# EAGLE library part R-78AAXX-0.5SMD (library recom-intl)
DC-DC CONVERTER R-78AA-0.5 Series
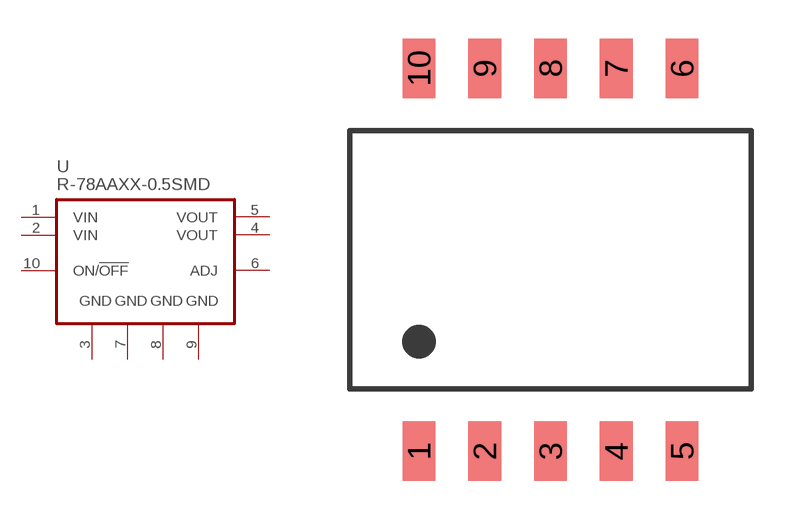
[diagram p0: symbol with the pads of SMD-10; footprint SMD-10]

Designator prefix U

## R-78AAXX-0.5SMD  [SMD-10]
1  VIN  in
2  VIN  in
3  GND  pwr
4  VOUT  pas
5  VOUT  pas
6  ADJ  in
7  GND  pwr
8  GND  pwr
9  GND  pwr
10  ON/!OFF!  pas

## Footprint SMD-10 (pad centres in mm)
SMD 10 0.1" pitch
smd 1.27 x 2.286: 1 -5.08,-7.4; 2 -2.54,-7.4; 3 0,-7.4; 4 2.54,-7.4; 5 5.08,-7.4; 6 5.08,7.4; 7 2.54,7.4; 8 0,7.4; 9 -2.54,7.4; 10 -5.08,7.4